# EAGLE library part 690207100872 (library Wurth_Elektronik_Electromechanic_Wire_to_Board_Connectors_rev16a)
WR-MM Transition Connector, 8 Pins=>Code : WR-MM_Leiterplattenverbinder_690207100872 <http://katalog.we-online.de/media/thumbs2/eican/thb_WR-MM_Leiterplattenverbinder_690207101072.jpg> Details see: http://katalog.we-online.de/en/em/6902_0710_xx_72 Created 2014-06-04, Karrer Zheng 2014 (C) Würth Elektronik
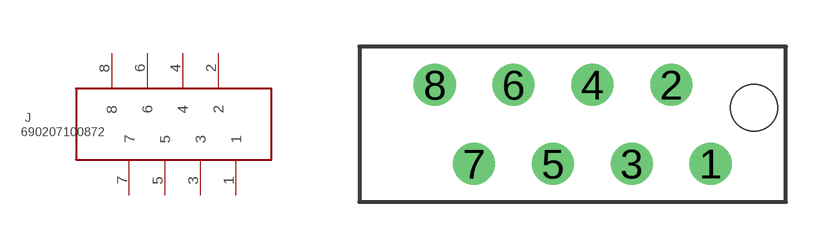
[diagram p92: symbol with the pads of 690207100872; footprint 690207100872]

Designator prefix J

## 690207100872  [690207100872]
1  1  pas
2  2  pas
3  3  pas
4  4  pas
5  5  pas
6  6  pas
7  7  pas
8  8  pas

## Footprint 690207100872 (pad centres in mm)
WR-MM Transition Connector, 8 Pins
drill 0.85: 1 3.175,-1.27; 2 1.905,1.27; 3 0.635,-1.27; 4 -0.635,1.27; 5 -1.905,-1.27; 6 -3.175,1.27; 7 -4.445,-1.27; 8 -5.715,1.27
hole 1.5 at 4.575,0.53